# EAGLE library part INA181 (library my-eagle-lib)
The INA181, INA2181, and INA4181 (INAx181) current sense amplifiers are designed for costoptimized applications. These devices are part of a family of bidirectional, current-sense amplifiers (also called current-shunt monitors) that sense voltage drops across current-sense resistors at commonmode voltages from –0.2 V to +26 V, independent of the supply voltage. The INAx181 family integrates a matched resistor gain network in four, fixed-gain device options: 20 V/V, 50 V/V, 100 V/V, or 200 V/V. This matched gain resistor network minimizes gain error and reduces the temperature drift. These devices operate from a single 2.7-V to 5.5-V power supply. The single-channel INA181 draws a maximum supply current of 260 µA; whereas, the dual-channel INA2181 draws a maximum supply current of 500 µA, and the quad-channel INA4181 draws a maximum supply current of 900 µA. The INA181 is available in a 6-pin, SOT-23 package. The INA2181 is available in an 10-pin, VSSOP package. The INA4181 is available in a 20-pin, TSSOP package. All device options are specified over the extended operating temperature range of –40°C to +125°C. Footprint: SOT23-6 Datasheet: http://www.ti.com/lit/ds/symlink/ina181.pdf
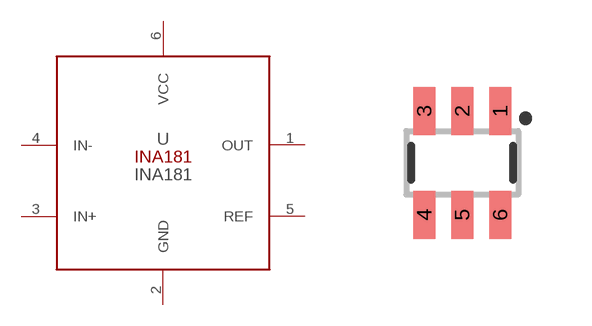
[diagram p3: symbol with the pads of SOT23-6; footprint SOT23-6]

Designator prefix -

## INA181  [SOT23-6]
1  OUT  out
2  GND  pwr
3  IN+  in
4  IN-  in
5  REF  in
6  VCC  pwr

## Footprint SOT23-6 (pad centres in mm)
SOT23-6 Specifications: Pin count: 6 Example device(s): MCP4725
smd 0.55 x 1.2: 1 0.95,1.3; 2 0,1.3; 3 -0.95,1.3; 4 -0.95,-1.3; 5 0,-1.3; 6 0.95,-1.3